# Altium schematic symbol library msp.SchLib: 3 symbols
Pins are listed as number, name and electrical type; pins without a type are passive.

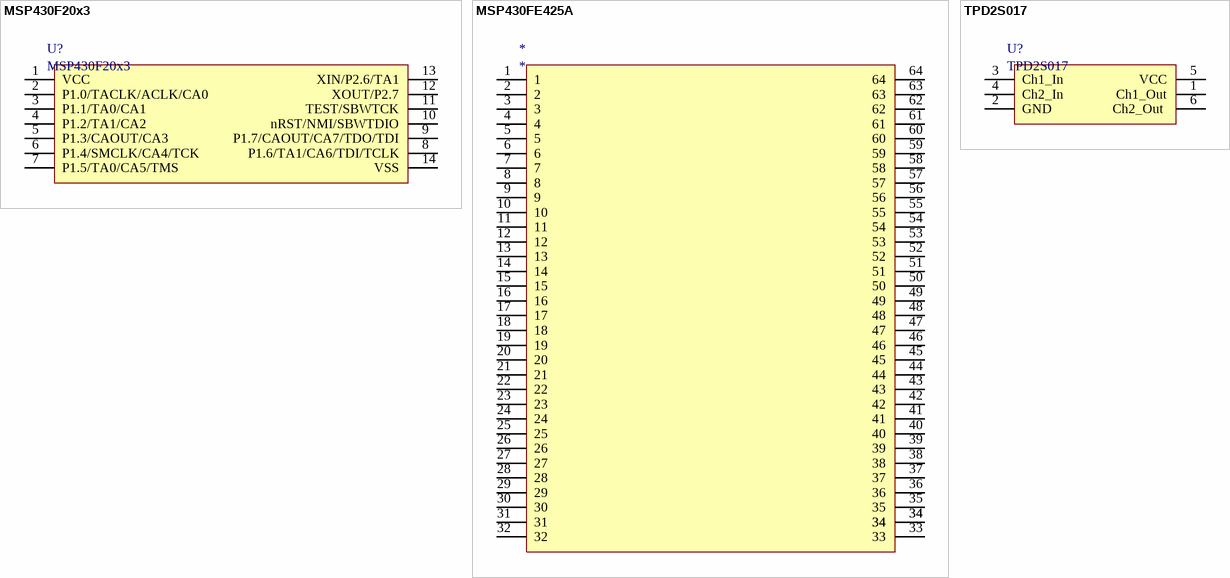
[diagram p0: symbols MSP430F20x3 to TPD2S017]

## MSP430F20x3
designator U?
MIXED SIGNAL MICROCONTROLLER; datasheet: http://www.ti.com/lit/ds/symlink/msp430f2013.pdf
pins: 1 VCC, 2 P1.0/TACLK/ACLK/CA0, 3 P1.1/TA0/CA1, 4 P1.2/TA1/CA2, 5 P1.3/CAOUT/CA3, 6 P1.4/SMCLK/CA4/TCK, 7 P1.5/TA0/CA5/TMS, 8 P1.6/TA1/CA6/TDI/TCLK, 9 P1.7/CAOUT/CA7/TDO/TDI, 10 nRST/NMI/SBWTDIO, 11 TEST/SBWTCK, 12 XOUT/P2.7, 13 XIN/P2.6/TA1, 14 VSS

## MSP430FE425A
designator *
pins: 1, 2, 3, 4, 5, 6, 7, 8, 9, 10, 11, 12, 13, 14, 15, 16, 17, 18, 19, 20, 21, 22, 23, 24, 25, 26, 27, 28, 29, 30, 31, 32, 33, 34, 34, 35, 36, 37, 38, 39, 40, 41, 42, 43, 44, 45, 46, 47, 48, 49, 50, 51, 52, 53, 54, 55, 56, 57, 58, 59, 60, 61, 62, 63, 64

## TPD2S017
designator U?
2-CHANNEL ULTRA-LOW CLAMP VOLTAGE ESD SOLUTION  WITH SERIES-RESISTOR ISOLATION; Manufacturer Part Number: TPD2S017DBVR
footprint SOT23-6 (SOT23, 6-Leads, Body 3,0x3,0mm (max), Pitch 0,95mm, IPC Medium Density)
pins: 1 Ch1_Out, 2 GND, 3 Ch1_In, 4 Ch2_In , 5 VCC, 6 Ch2_Out 